# Altium footprint library Trimming Potentiometers SMD Pad Lib.PcbLib: 4 footprints
Each footprint in its own frame and in the unit in brackets; x right, y up, seen from the top. Pads: shape width x height; smd on the part's side, far side on the other; paste and mask are expansions set on the pad; w line width, h text height; cw(c..) or ccw(c..) is an arc to the next point about the centre after c.
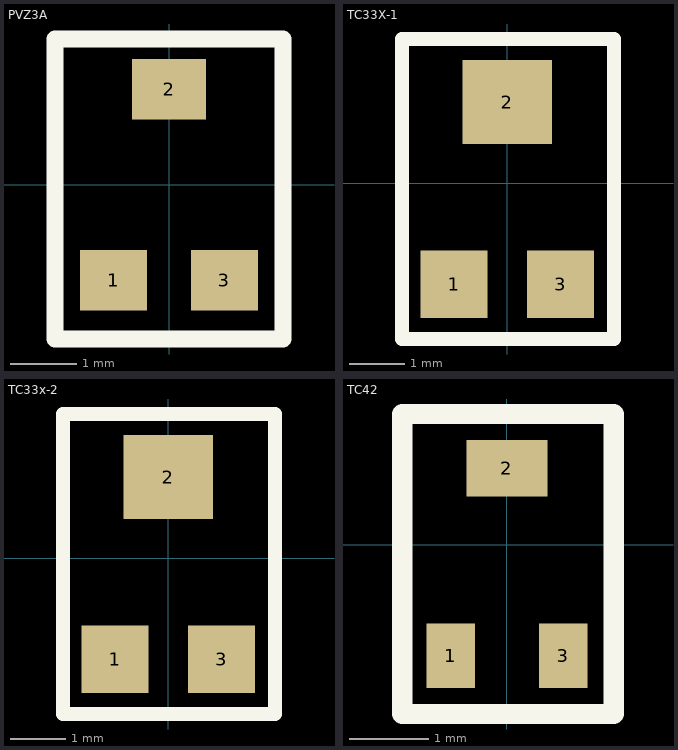
[diagram p0: the footprints below, top view; thin cyan lines are the x and y axes]

## PVZ3A [mil] "Trimming Potentiometers PVZ3A 3.1X3.6mm (Murata)"
pads (3):
  rect 40x36 smd: 1(-33,-57) 3(33,-57)
  rect 44x36 smd: 2(0,57)
Top Overlay:
  lines w10: -68,-92 68,-92 68,87 -68,87 -68,-92
3D body "Res trim PVZ3A.step": height 76.77, standoff 0, extent -61.02,-72.83 61.03,72.45

## TC33X-1 [mil] "Trimming Potentiometers TC33X-1 3.6X3.8mm (Bourns), Continuous Rotation"
pads (3):
  rect 48x48 smd: 1(-38,-72) 3(38,-72)
  rect 64x60 smd: 2(0,58)
Top Overlay:
  lines w10: -75,-111 76,-111 76,103 -75,103 -75,-111
3D body "TC-33X-1.step": height 44.69, standoff -1.18, extent -71,-78.33 70.73,73.74

## TC33x-2 [mil] "Trimming Potentiometers TC33X-2 3.6X3.8mm (Bourns), Rotational Stop"
pads (3):
  rect 48x48 smd: 1(-38,-72) 3(38,-72)
  rect 64x60 smd: 2(0,58)
Top Overlay:
  lines w10: -75,-111 -75,103 76,103 76,-111 -75,-111
3D body "TC-33X-2.step": height 44.69, standoff -0.7, extent -70.86,-75.3 70.87,80.71

## TC42 [mil] "Trimming Potentiometers TC42 2.2X2.8mm (Bourns)"
pads (3):
  rect 24x32 smd: 1(-28,-55) 3(28,-55)
  rect 40x28 smd: 2(0,38)
Top Overlay:
  lines w10: -52,-84 53,-84 53,65 -52,65 -52,-84
3D body "TC42.step": height 29, standoff -2, extent -44,-65 43,47